# Altium integrated library Resistors.IntLib: 4954 symbols (part 15 of 32)
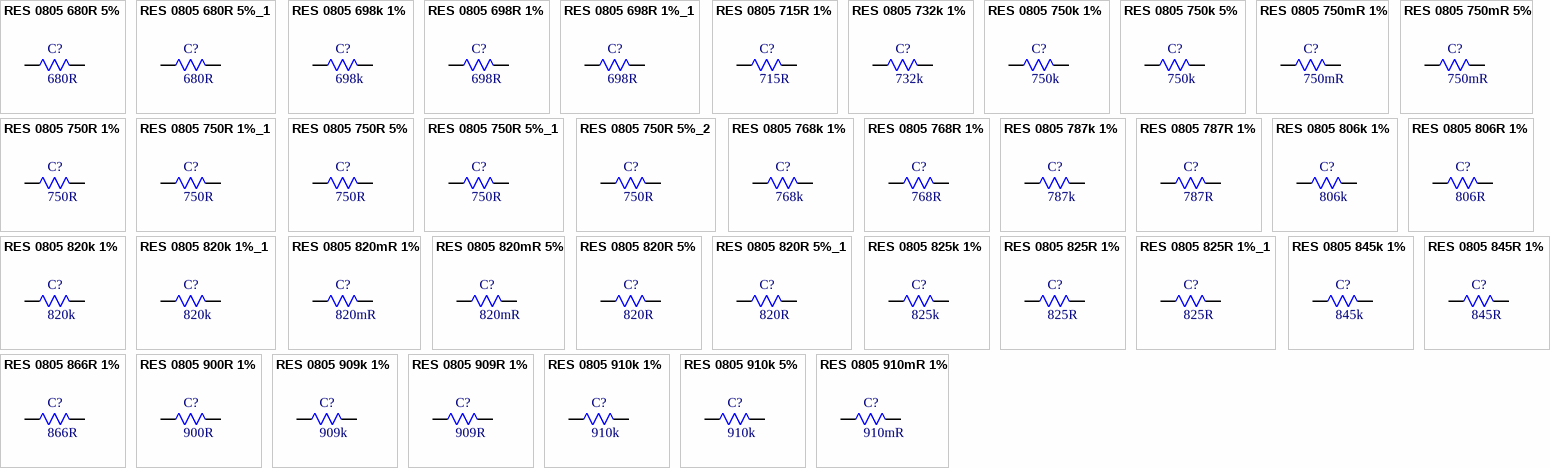
[diagram p137: symbols RES 0805 680R 5% to RES 0805 910mR 1%]

## RES 0805 680R 5%_1
designator C?, comment 680R
680R 125mW 150V Thick Film Resistor 100ppm/â„ƒ 5% 0805 Chip Resistor - Surface Mount RoHS; Manufacturer: FOJAN; Manufacturer Part Number: FRQ0805J681 TS; Supplier: LCSC; Supplier Part Number: C18222247; Resistance: 680R; Tolerance: 5%; Voltage Rating: 150V; Power: 125mW
footprint RES SMD 0805
pins: 1, 2

## RES 0805 698k 1%
designator C?, comment 698k
125mW 698kR 150V Thick Film Resistor 1% 0805 Chip Resistor - Surface Mount RoHS; Manufacturer: FOJAN; Manufacturer Part Number: FRC0805F6983TS; Supplier: LCSC; Supplier Part Number: C51048256; Resistance: 698k; Tolerance: 1%; Voltage Rating: 150V; Power: 125mW
footprint RES SMD 0805
pins: 1, 2

## RES 0805 698R 1%
designator C?, comment 698R
698R 1% 125mW 0805 Thick Film Resistor; Manufacturer: FOJAN; Manufacturer Part Number: FRC0805F6980TS; Voltage Rating: 150V; Supplier: LCSC; Supplier Part Number: C3000737; Resistance: 698R; Tolerance: 1%; Power: 125mW
footprint RES SMD 0805
pins: 1, 2

## RES 0805 698R 1%_1
designator C?, comment 698R
698R 1% 125mW 0805 Thick Film Resistor AEC-Q200; Manufacturer: FOJAN; Manufacturer Part Number: FRQ0805F6980TS; Voltage Rating: 150V; Supplier: LCSC; Supplier Part Number: C5713451; Resistance: 698R; Tolerance: 1%; Power: 125mW
footprint RES SMD 0805
pins: 1, 2

## RES 0805 715R 1%
designator C?, comment 715R
125mW 715R 150V Thick Film Resistor 1% 100ppm/â„ƒ 0805 Chip Resistor - Surface Mount RoHS; Manufacturer: FOJAN; Manufacturer Part Number: FRC0805F7150TS; Supplier: LCSC; Supplier Part Number: C7467423; Resistance: 715R; Tolerance: 1%; Voltage Rating: 150V; Power: 125mW
footprint RES SMD 0805
pins: 1, 2

## RES 0805 732k 1%
designator C?, comment 732k
732kR 1% 125mW 0805 Thick Film Resistor; Manufacturer: FOJAN; Manufacturer Part Number: FRC0805F7323TS; Voltage Rating: 150V; Supplier: LCSC; Supplier Part Number: C42372168; Resistance: 732k; Tolerance: 1%; Power: 125mW
footprint RES SMD 0805
pins: 1, 2

## RES 0805 750k 1%
designator C?, comment 750k
125mW 750kR Thick Film Resistor 1% 200ppm/â„ƒ 0805 Chip Resistor - Surface Mount RoHS; Manufacturer: FOJAN; Manufacturer Part Number: FRV0805F7503TS; Supplier: LCSC; Supplier Part Number: C22375105; Resistance: 750k; Tolerance: 1%; Power: 125mW
footprint RES SMD 0805
pins: 1, 2

## RES 0805 750k 5%
designator C?, comment 750k
750kR 5% 125mW 0805 Thick Film Resistor; Manufacturer: FOJAN; Manufacturer Part Number: FRC0805J754TS; Voltage Rating: 150V; Supplier: LCSC; Supplier Part Number: C2930311; Resistance: 750k; Tolerance: 5%; Power: 125mW
footprint RES SMD 0805
pins: 1, 2

## RES 0805 750mR 1%
designator C?, comment 750mR
750mR 1% 125mW 0805 Thick Film Resistor; Manufacturer: FOJAN; Manufacturer Part Number: FRL0805FR750TS; Voltage Rating: 300V; Supplier: LCSC; Supplier Part Number: C2930223; Resistance: 750mR; Tolerance: 1%; Power: 125mW
footprint RES SMD 0805
pins: 1, 2

## RES 0805 750mR 5%
designator C?, comment 750mR
750mR 5% 125mW 0805 Thick Film Resistor; Manufacturer: FOJAN; Manufacturer Part Number: FRL0805JR750TS; Voltage Rating: 300V; Supplier: LCSC; Supplier Part Number: C2934284; Resistance: 750mR; Tolerance: 5%; Power: 125mW
footprint RES SMD 0805
pins: 1, 2

## RES 0805 750R 1%
designator C?, comment 750R
750R 1% 125mW 0805 Thick Film Resistor; Manufacturer: FOJAN; Manufacturer Part Number: FRC0805F7500TS; Voltage Rating: 150V; Supplier: LCSC; Supplier Part Number: C2907285; Resistance: 750R; Tolerance: 1%; Power: 125mW
footprint RES SMD 0805
pins: 1, 2

## RES 0805 750R 1%_1
designator C?, comment 750R
125mW 750R Thick Film Resistor 1% 100ppm/â„ƒ 0805 Chip Resistor - Surface Mount RoHS; Manufacturer: FOJAN; Manufacturer Part Number: FRQ0805F7500TS; Supplier: LCSC; Supplier Part Number: C7468560; Resistance: 750R; Tolerance: 1%; Power: 125mW
footprint RES SMD 0805
pins: 1, 2

## RES 0805 750R 5%
designator C?, comment 750R
125mW 750R 150V Thick Film Resistor 100ppm/â„ƒ 5% 0805 Chip Resistor - Surface Mount RoHS; Manufacturer: FOJAN; Manufacturer Part Number: FRD0805J751RS; Supplier: LCSC; Supplier Part Number: C19268620; Resistance: 750R; Tolerance: 5%; Voltage Rating: 150V; Power: 125mW
footprint RES SMD 0805
pins: 1, 2

## RES 0805 750R 5%_1
designator C?, comment 750R
750R 5% 125mW 0805 Thick Film Resistor; Manufacturer: FOJAN; Manufacturer Part Number: FRD0805J751TS; Voltage Rating: 150V; Supplier: LCSC; Supplier Part Number: C2930312; Resistance: 750R; Tolerance: 5%; Power: 125mW
footprint RES SMD 0805
pins: 1, 2

## RES 0805 750R 5%_2
designator C?, comment 750R
750R 5% 125mW 0805 Thick Film Resistor; Manufacturer: FOJAN; Manufacturer Part Number: FRC0805J751 TS; Voltage Rating: 150V; Supplier: LCSC; Supplier Part Number: C2933567; Resistance: 750R; Tolerance: 5%; Power: 125mW
footprint RES SMD 0805
pins: 1, 2

## RES 0805 768k 1%
designator C?, comment 768k
125mW 768kR 150V Thick Film Resistor 1% 100ppm/â„ƒ 0805 Chip Resistor - Surface Mount RoHS; Manufacturer: FOJAN; Manufacturer Part Number: FRC0805F7683TS; Supplier: LCSC; Supplier Part Number: C7467337; Resistance: 768k; Tolerance: 1%; Voltage Rating: 150V; Power: 125mW
footprint RES SMD 0805
pins: 1, 2

## RES 0805 768R 1%
designator C?, comment 768R
768R 1% 125mW 0805 Thick Film Resistor; Manufacturer: FOJAN; Manufacturer Part Number: FRC0805F7680TS; Voltage Rating: 150V; Supplier: LCSC; Supplier Part Number: C5713315; Resistance: 768R; Tolerance: 1%; Power: 125mW
footprint RES SMD 0805
pins: 1, 2

## RES 0805 787k 1%
designator C?, comment 787k
787kR 1% 125mW 0805 Thick Film Resistor; Manufacturer: FOJAN; Manufacturer Part Number: FRC0805F7873TS; Voltage Rating: 150V; Supplier: LCSC; Supplier Part Number: C2933500; Resistance: 787k; Tolerance: 1%; Power: 125mW
footprint RES SMD 0805
pins: 1, 2

## RES 0805 787R 1%
designator C?, comment 787R
787R 1% 125mW 0805 Thick Film Resistor; Manufacturer: FOJAN; Manufacturer Part Number: FRC0805F7870TS; Voltage Rating: 150V; Supplier: LCSC; Supplier Part Number: C5713316; Resistance: 787R; Tolerance: 1%; Power: 125mW
footprint RES SMD 0805
pins: 1, 2

## RES 0805 806k 1%
designator C?, comment 806k
806kR 1% 125mW 0805 Thick Film Resistor; Manufacturer: FOJAN; Manufacturer Part Number: FRC0805F8063TS; Voltage Rating: 150V; Supplier: LCSC; Supplier Part Number: C2933502; Resistance: 806k; Tolerance: 1%; Power: 125mW
footprint RES SMD 0805
pins: 1, 2

## RES 0805 806R 1%
designator C?, comment 806R
806R 1% 125mW 0805 Thick Film Resistor; Manufacturer: FOJAN; Manufacturer Part Number: FRC0805F8060TS; Voltage Rating: 150V; Supplier: LCSC; Supplier Part Number: C2999620; Resistance: 806R; Tolerance: 1%; Power: 125mW
footprint RES SMD 0805
pins: 1, 2

## RES 0805 820k 1%
designator C?, comment 820k
820kR 1% 125mW 0805 Thick Film Resistor; Manufacturer: FOJAN; Manufacturer Part Number: FRC0805F8203TS; Voltage Rating: 150V; Supplier: LCSC; Supplier Part Number: C2933504; Resistance: 820k; Tolerance: 1%; Power: 125mW
footprint RES SMD 0805
pins: 1, 2

## RES 0805 820k 1%_1
designator C?, comment 820k
125mW 820kR 400V Thick Film Resistor 200ppm/â„ƒ 1% 0805 Chip Resistor - Surface Mount RoHS; Manufacturer: FOJAN; Manufacturer Part Number: FRV0805F8203TS; Supplier: LCSC; Supplier Part Number: C49196876; Resistance: 820k; Tolerance: 1%; Voltage Rating: 400V; Power: 125mW
footprint RES SMD 0805
pins: 1, 2

## RES 0805 820mR 1%
designator C?, comment 820mR
820mR 1% 125mW 0805 Thick Film Resistor; Manufacturer: FOJAN; Manufacturer Part Number: FRL0805FR820TS; Voltage Rating: 300V; Supplier: LCSC; Supplier Part Number: C2934270; Resistance: 820mR; Tolerance: 1%; Power: 125mW
footprint RES SMD 0805
pins: 1, 2

## RES 0805 820mR 5%
designator C?, comment 820mR
820mR 5% 125mW 0805 Thick Film Resistor; Manufacturer: FOJAN; Manufacturer Part Number: FRL0805JR820TS; Voltage Rating: 300V; Supplier: LCSC; Supplier Part Number: C2934285; Resistance: 820mR; Tolerance: 5%; Power: 125mW
footprint RES SMD 0805
pins: 1, 2

## RES 0805 820R 5%
designator C?, comment 820R
820R 5% 125mW 0805 Thick Film Resistor; Manufacturer: FOJAN; Manufacturer Part Number: FRD0805J821 TS; Voltage Rating: 150V; Supplier: LCSC; Supplier Part Number: C2934187; Resistance: 820R; Tolerance: 5%; Power: 125mW
footprint RES SMD 0805
pins: 1, 2

## RES 0805 820R 5%_1
designator C?, comment 820R
820R 5% 125mW 0805 Thick Film Resistor; Manufacturer: FOJAN; Manufacturer Part Number: FRC0805J821 TS; Voltage Rating: 150V; Supplier: LCSC; Supplier Part Number: C2933571; Resistance: 820R; Tolerance: 5%; Power: 125mW
footprint RES SMD 0805
pins: 1, 2

## RES 0805 825k 1%
designator C?, comment 825k
125mW 825kR 150V Thick Film Resistor 100ppm/â„ƒ 1% 0805 Chip Resistor - Surface Mount RoHS; Manufacturer: FOJAN; Manufacturer Part Number: FRC0805F8253TS; Supplier: LCSC; Supplier Part Number: C49010125; Resistance: 825k; Tolerance: 1%; Voltage Rating: 150V; Power: 125mW
footprint RES SMD 0805
pins: 1, 2

## RES 0805 825R 1%
designator C?, comment 825R
125mW 825R Thick Film Resistor 100ppm/â„ƒ 1% 0805 Chip Resistor - Surface Mount RoHS; Manufacturer: FOJAN; Manufacturer Part Number: FRQ0805F8250TS; Supplier: LCSC; Supplier Part Number: C22375120; Resistance: 825R; Tolerance: 1%; Power: 125mW
footprint RES SMD 0805
pins: 1, 2

## RES 0805 825R 1%_1
designator C?, comment 825R
825R 1% 125mW 0805 Thick Film Resistor; Manufacturer: FOJAN; Manufacturer Part Number: FRC0805F8250TS; Voltage Rating: 150V; Supplier: LCSC; Supplier Part Number: C5121546; Resistance: 825R; Tolerance: 1%; Power: 125mW
footprint RES SMD 0805
pins: 1, 2

## RES 0805 845k 1%
designator C?, comment 845k
845kR 1% 125mW 0805 Thick Film Resistor; Manufacturer: FOJAN; Manufacturer Part Number: FRC0805F8453TS; Voltage Rating: 150V; Supplier: LCSC; Supplier Part Number: C5159724; Resistance: 845k; Tolerance: 1%; Power: 125mW
footprint RES SMD 0805
pins: 1, 2

## RES 0805 845R 1%
designator C?, comment 845R
845R 1% 125mW 0805 Thick Film Resistor; Manufacturer: FOJAN; Manufacturer Part Number: FRC0805F8450TS; Voltage Rating: 150V; Supplier: LCSC; Supplier Part Number: C3013229; Resistance: 845R; Tolerance: 1%; Power: 125mW
footprint RES SMD 0805
pins: 1, 2

## RES 0805 866R 1%
designator C?, comment 866R
866R 125mW 150V Thick Film Resistor 100ppm/â„ƒ 1% 0805 Chip Resistor - Surface Mount RoHS; Manufacturer: FOJAN; Manufacturer Part Number: FRC0805F8660TS; Supplier: LCSC; Supplier Part Number: C22375134; Resistance: 866R; Tolerance: 1%; Voltage Rating: 150V; Power: 125mW
footprint RES SMD 0805
pins: 1, 2

## RES 0805 900R 1%
designator C?, comment 900R
125mW 900R 150V Thick Film Resistor 100ppm/â„ƒ 1% 0805 Chip Resistor - Surface Mount RoHS; Manufacturer: FOJAN; Manufacturer Part Number: FRC0805F9000TS; Supplier: LCSC; Supplier Part Number: C49010113; Resistance: 900R; Tolerance: 1%; Voltage Rating: 150V; Power: 125mW
footprint RES SMD 0805
pins: 1, 2

## RES 0805 909k 1%
designator C?, comment 909k
125mW 909kR 150V Thick Film Resistor 1% 100ppm/â„ƒ 0805 Chip Resistor - Surface Mount RoHS; Manufacturer: FOJAN; Manufacturer Part Number: FRC0805F9093TS; Supplier: LCSC; Supplier Part Number: C7467425; Resistance: 909k; Tolerance: 1%; Voltage Rating: 150V; Power: 125mW
footprint RES SMD 0805
pins: 1, 2

## RES 0805 909R 1%
designator C?, comment 909R
909R 1% 125mW 0805 Thick Film Resistor; Manufacturer: FOJAN; Manufacturer Part Number: FRC0805F9090TS; Voltage Rating: 150V; Supplier: LCSC; Supplier Part Number: C3013230; Resistance: 909R; Tolerance: 1%; Power: 125mW
footprint RES SMD 0805
pins: 1, 2

## RES 0805 910k 1%
designator C?, comment 910k
910kR 1% 125mW 0805 Thick Film Resistor; Manufacturer: FOJAN; Manufacturer Part Number: FRC0805F9103TS; Voltage Rating: 150V; Supplier: LCSC; Supplier Part Number: C2999461; Resistance: 910k; Tolerance: 1%; Power: 125mW
footprint RES SMD 0805
pins: 1, 2

## RES 0805 910k 5%
designator C?, comment 910k
910kR 5% 125mW 0805 Thick Film Resistor; Manufacturer: FOJAN; Manufacturer Part Number: FRC0805J914 TS; Voltage Rating: 150V; Supplier: LCSC; Supplier Part Number: C2933575; Resistance: 910k; Tolerance: 5%; Power: 125mW
footprint RES SMD 0805
pins: 1, 2

## RES 0805 910mR 1%
designator C?, comment 910mR
910mR 1% 125mW 0805 Thick Film Resistor; Manufacturer: FOJAN; Manufacturer Part Number: FRL0805FR910TS; Voltage Rating: 300V; Supplier: LCSC; Supplier Part Number: C3000599; Resistance: 910mR; Tolerance: 1%; Power: 125mW
footprint RES SMD 0805
pins: 1, 2

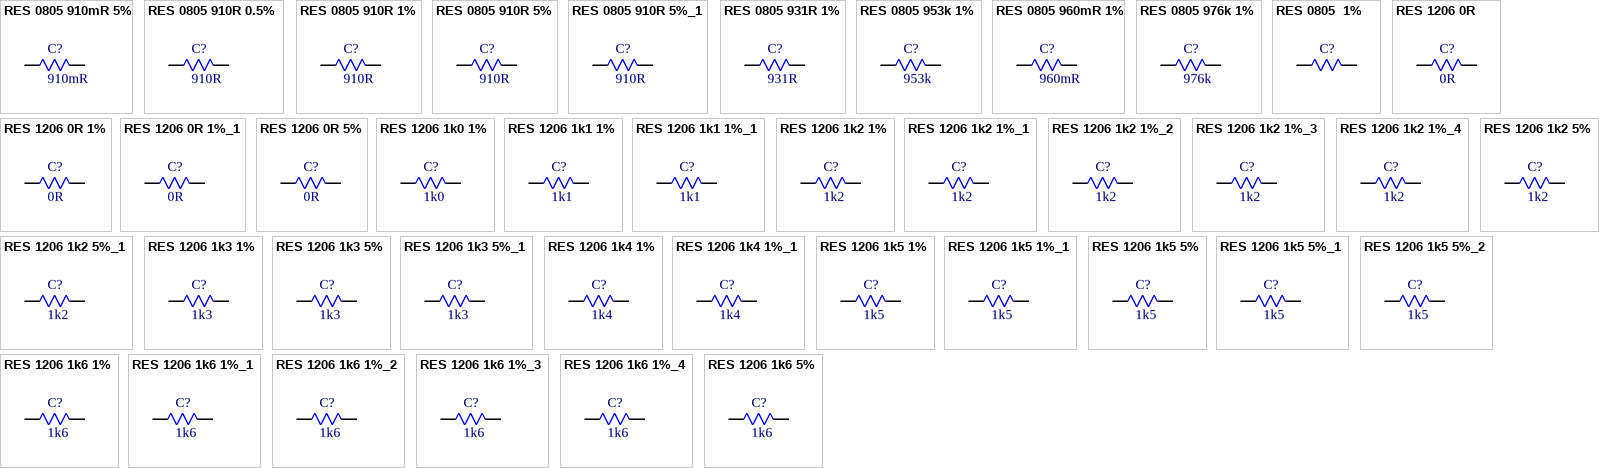
[diagram p57: symbols RES 0805 910mR 5% to RES 1206 1k6 5%]

## RES 0805 910mR 5%
designator C?, comment 910mR
910mR 5% 125mW 0805 Thick Film Resistor; Manufacturer: FOJAN; Manufacturer Part Number: FRL0805JR910TS; Voltage Rating: 300V; Supplier: LCSC; Supplier Part Number: C2934286; Resistance: 910mR; Tolerance: 5%; Power: 125mW
footprint RES SMD 0805
pins: 1, 2

## RES 0805 910R 0.5%
designator C?, comment 910R
910R 0.5% 125mW 0805 Thick Film Resistor; Manufacturer: FOJAN; Manufacturer Part Number: FRH0805D9100TS; Voltage Rating: 150V; Supplier: LCSC; Supplier Part Number: C5713388; Resistance: 910R; Tolerance: 0.5%; Power: 125mW
footprint RES SMD 0805
pins: 1, 2

## RES 0805 910R 1%
designator C?, comment 910R
910R 1% 125mW 0805 Thick Film Resistor; Manufacturer: FOJAN; Manufacturer Part Number: FRC0805F9100TS; Voltage Rating: 150V; Supplier: LCSC; Supplier Part Number: C2930211; Resistance: 910R; Tolerance: 1%; Power: 125mW
footprint RES SMD 0805
pins: 1, 2

## RES 0805 910R 5%
designator C?, comment 910R
910R 5% 125mW 0805 Thick Film Resistor; Manufacturer: FOJAN; Manufacturer Part Number: FRC0805J911TSD; Voltage Rating: 150V; Supplier: LCSC; Supplier Part Number: C2930320; Resistance: 910R; Tolerance: 5%; Power: 125mW
footprint RES SMD 0805
pins: 1, 2

## RES 0805 910R 5%_1
designator C?, comment 910R
910R 5% 125mW 0805 Thick Film Resistor; Manufacturer: FOJAN; Manufacturer Part Number: FRC0805J911 TS; Voltage Rating: 150V; Supplier: LCSC; Supplier Part Number: C2933574; Resistance: 910R; Tolerance: 5%; Power: 125mW
footprint RES SMD 0805
pins: 1, 2

## RES 0805 931R 1%
designator C?, comment 931R
931R 1% 125mW 0805 Thick Film Resistor; Manufacturer: FOJAN; Manufacturer Part Number: FRC0805F9310TS; Voltage Rating: 150V; Supplier: LCSC; Supplier Part Number: C3000585; Resistance: 931R; Tolerance: 1%; Power: 125mW
footprint RES SMD 0805
pins: 1, 2

## RES 0805 953k 1%
designator C?, comment 953k
953kR 1% 125mW 0805 Thick Film Resistor; Manufacturer: FOJAN; Manufacturer Part Number: FRC0805F9533TS; Voltage Rating: 150V; Supplier: LCSC; Supplier Part Number: C3013231; Resistance: 953k; Tolerance: 1%; Power: 125mW
footprint RES SMD 0805
pins: 1, 2

## RES 0805 960mR 1%
designator C?, comment 960mR
960mR 1% 125mW 0805 Thick Film Resistor; Manufacturer: FOJAN; Manufacturer Part Number: FRL0805FR960TS; Voltage Rating: 300V; Supplier: LCSC; Supplier Part Number: C2934271; Resistance: 960mR; Tolerance: 1%; Power: 125mW
footprint RES SMD 0805
pins: 1, 2

## RES 0805 976k 1%
designator C?, comment 976k
125mW 976kR 150V Thick Film Resistor 100ppm/â„ƒ 1% 0805 Chip Resistor - Surface Mount RoHS; Manufacturer: FOJAN; Manufacturer Part Number: FRC0805F9763TS; Supplier: LCSC; Supplier Part Number: C48533716; Resistance: 976k; Tolerance: 1%; Voltage Rating: 150V; Power: 125mW
footprint RES SMD 0805
pins: 1, 2

## RES 0805  1%
designator C?
125mW 150V Thick Film Resistor 1% 0805 Chip Resistor - Surface Mount RoHS; Manufacturer: FOJAN; Manufacturer Part Number: FRR0805F0000TS; Supplier: LCSC; Supplier Part Number: C51048219; Tolerance: 1%; Voltage Rating: 150V; Power: 125mW
footprint RES SMD 0805
pins: 1, 2

## RES 1206 0R
designator C?, comment 0R
0R 250mW 200V Thick Film Resistor 1206 Chip Resistor - Surface Mount RoHS; Manufacturer: FOJAN; Manufacturer Part Number: FRR1206P000 TS; Supplier: LCSC; Supplier Part Number: C49196841; Resistance: 0R; Voltage Rating: 200V; Power: 250mW
footprint RES SMD 1206
pins: 1, 2

## RES 1206 0R 1%
designator C?, comment 0R
250mW 0R 200V Thick Film Resistor 1% 1206 Chip Resistor - Surface Mount RoHS; Manufacturer: FOJAN; Manufacturer Part Number: FRC1206F0000TS; Supplier: LCSC; Supplier Part Number: C2907363; Resistance: 0R; Tolerance: 1%; Voltage Rating: 200V; Power: 250mW
footprint RES SMD 1206
pins: 1, 2

## RES 1206 0R 1%_1
designator C?, comment 0R
0R 250mW Thick Film Resistor 1% 1206 Chip Resistor - Surface Mount RoHS; Manufacturer: FOJAN; Manufacturer Part Number: FRQ1206F0000TS; Supplier: LCSC; Supplier Part Number: C7468496; Resistance: 0R; Tolerance: 1%; Power: 250mW
footprint RES SMD 1206
pins: 1, 2

## RES 1206 0R 5%
designator C?, comment 0R
0R 250mW Thick Film Resistor 5% 1206 Chip Resistor - Surface Mount RoHS; Manufacturer: FOJAN; Manufacturer Part Number: FRQ1206P000 TS; Supplier: LCSC; Supplier Part Number: C7468427; Resistance: 0R; Tolerance: 5%; Power: 250mW
footprint RES SMD 1206
pins: 1, 2

## RES 1206 1k0 1%
designator C?, comment 1k0
1.05kR 250mW 200V Thick Film Resistor 1% 100ppm/â„ƒ 1206 Chip Resistor - Surface Mount RoHS; Manufacturer: FOJAN; Manufacturer Part Number: FRC1206F1051TS; Supplier: LCSC; Supplier Part Number: C7467470; Resistance: 1k0; Tolerance: 1%; Voltage Rating: 200V; Power: 250mW
footprint RES SMD 1206
pins: 1, 2

## RES 1206 1k1 1%
designator C?, comment 1k1
1.1kR 1% 250mW 1206 Thick Film Resistor; Manufacturer: FOJAN; Manufacturer Part Number: FRC1206F1101TS; Voltage Rating: 200V; Supplier: LCSC; Supplier Part Number: C2933580; Resistance: 1k1; Tolerance: 1%; Power: 250mW
footprint RES SMD 1206
pins: 1, 2

## RES 1206 1k1 1%_1
designator C?, comment 1k1
1.13kR 1% 250mW 1206 Thick Film Resistor; Manufacturer: FOJAN; Manufacturer Part Number: FRC1206F1131TS; Voltage Rating: 200V; Supplier: LCSC; Supplier Part Number: C5204018; Resistance: 1k1; Tolerance: 1%; Power: 250mW
footprint RES SMD 1206
pins: 1, 2

## RES 1206 1k2 1%
designator C?, comment 1k2
1.2kR 1% 250mW 1206 Thick Film Resistor; Manufacturer: FOJAN; Manufacturer Part Number: FRC1206F1201TS; Voltage Rating: 200V; Supplier: LCSC; Supplier Part Number: C2933585; Resistance: 1k2; Tolerance: 1%; Power: 250mW
footprint RES SMD 1206
pins: 1, 2

## RES 1206 1k2 1%_1
designator C?, comment 1k2
1.24kR 1% 250mW 1206 Thick Film Resistor; Manufacturer: FOJAN; Manufacturer Part Number: FRC1206F1241TS; Voltage Rating: 200V; Supplier: LCSC; Supplier Part Number: C2999505; Resistance: 1k2; Tolerance: 1%; Power: 250mW
footprint RES SMD 1206
pins: 1, 2

## RES 1206 1k2 1%_2
designator C?, comment 1k2
250mW 1.2kR 200V Thick Film Resistor 100ppm/â„ƒ 1% 1206 Chip Resistor - Surface Mount RoHS; Manufacturer: FOJAN; Manufacturer Part Number: FRQ1206F1201TS; Supplier: LCSC; Supplier Part Number: C18222272; Resistance: 1k2; Tolerance: 1%; Voltage Rating: 200V; Power: 250mW
footprint RES SMD 1206
pins: 1, 2

## RES 1206 1k2 1%_3
designator C?, comment 1k2
500mW 1.2kR Thick Film Resistor 200ppm/â„ƒ 1% 1206 Chip Resistor - Surface Mount RoHS; Manufacturer: FOJAN; Manufacturer Part Number: FRP1206F1201TS; Supplier: LCSC; Supplier Part Number: C7468365; Resistance: 1k2; Tolerance: 1%; Power: 500mW
footprint RES SMD 1206
pins: 1, 2

## RES 1206 1k2 1%_4
designator C?, comment 1k2
1.27kR 1% 250mW 1206 Thick Film Resistor; Manufacturer: FOJAN; Manufacturer Part Number: FRC1206F1271TS; Voltage Rating: 200V; Supplier: LCSC; Supplier Part Number: C2933589; Resistance: 1k2; Tolerance: 1%; Power: 250mW
footprint RES SMD 1206
pins: 1, 2

## RES 1206 1k2 5%
designator C?, comment 1k2
1.2kR 5% 250mW 1206 Thick Film Resistor; Manufacturer: FOJAN; Manufacturer Part Number: FRC1206J122 TS; Voltage Rating: 200V; Supplier: LCSC; Supplier Part Number: C2907408; Resistance: 1k2; Tolerance: 5%; Power: 250mW
footprint RES SMD 1206
pins: 1, 2

## RES 1206 1k2 5%_1
designator C?, comment 1k2
250mW 1.2kR 200V Thick Film Resistor 100ppm/â„ƒ 5% 1206 Chip Resistor - Surface Mount RoHS; Manufacturer: FOJAN; Manufacturer Part Number: FRQ1206J122 TS; Supplier: LCSC; Supplier Part Number: C18222285; Resistance: 1k2; Tolerance: 5%; Voltage Rating: 200V; Power: 250mW
footprint RES SMD 1206
pins: 1, 2

## RES 1206 1k3 1%
designator C?, comment 1k3
1.3kR 1% 250mW 1206 Thick Film Resistor; Manufacturer: FOJAN; Manufacturer Part Number: FRC1206F1301TS; Voltage Rating: 200V; Supplier: LCSC; Supplier Part Number: C2933592; Resistance: 1k3; Tolerance: 1%; Power: 250mW
footprint RES SMD 1206
pins: 1, 2

## RES 1206 1k3 5%
designator C?, comment 1k3
1.3kR 5% 250mW 1206 Thick Film Resistor; Manufacturer: FOJAN; Manufacturer Part Number: FRC1206J132 TS; Voltage Rating: 200V; Supplier: LCSC; Supplier Part Number: C2907411; Resistance: 1k3; Tolerance: 5%; Power: 250mW
footprint RES SMD 1206
pins: 1, 2

## RES 1206 1k3 5%_1
designator C?, comment 1k3
250mW 1.3kR 200V Thick Film Resistor 5% 100ppm/â„ƒ 1206 Chip Resistor - Surface Mount RoHS; Manufacturer: FOJAN; Manufacturer Part Number: FRQ1206J132 TS; Supplier: LCSC; Supplier Part Number: C7468440; Resistance: 1k3; Tolerance: 5%; Voltage Rating: 200V; Power: 250mW
footprint RES SMD 1206
pins: 1, 2

## RES 1206 1k4 1%
designator C?, comment 1k4
1.4kR 1% 250mW 1206 Thick Film Resistor; Manufacturer: FOJAN; Manufacturer Part Number: FRC1206F1401TS; Voltage Rating: 200V; Supplier: LCSC; Supplier Part Number: C5713320; Resistance: 1k4; Tolerance: 1%; Power: 250mW
footprint RES SMD 1206
pins: 1, 2

## RES 1206 1k4 1%_1
designator C?, comment 1k4
1.47kR 1% 250mW 1206 Thick Film Resistor; Manufacturer: FOJAN; Manufacturer Part Number: FRC1206F1471TS; Voltage Rating: 200V; Supplier: LCSC; Supplier Part Number: C2930401; Resistance: 1k4; Tolerance: 1%; Power: 250mW
footprint RES SMD 1206
pins: 1, 2

## RES 1206 1k5 1%
designator C?, comment 1k5
250mW 1.5kR 200V Thick Film Resistor 100ppm/â„ƒ 1% 1206 Chip Resistor - Surface Mount RoHS; Manufacturer: FOJAN; Manufacturer Part Number: FRR1206F1501TS; Supplier: LCSC; Supplier Part Number: C49196834; Resistance: 1k5; Tolerance: 1%; Voltage Rating: 200V; Power: 250mW
footprint RES SMD 1206
pins: 1, 2

## RES 1206 1k5 1%_1
designator C?, comment 1k5
1.5kR 1% 250mW 1206 Thick Film Resistor; Manufacturer: FOJAN; Manufacturer Part Number: FRC1206F1501TS; Voltage Rating: 200V; Supplier: LCSC; Supplier Part Number: C2930402; Resistance: 1k5; Tolerance: 1%; Power: 250mW
footprint RES SMD 1206
pins: 1, 2

## RES 1206 1k5 5%
designator C?, comment 1k5
1.5kR 5% 250mW 1206 Thick Film Resistor; Manufacturer: FOJAN; Manufacturer Part Number: FRC1206J152 TS; Voltage Rating: 200V; Supplier: LCSC; Supplier Part Number: C2907413; Resistance: 1k5; Tolerance: 5%; Power: 250mW
footprint RES SMD 1206
pins: 1, 2

## RES 1206 1k5 5%_1
designator C?, comment 1k5
250mW 1.5kR 200V Thick Film Resistor 5% 100ppm/â„ƒ 1206 Chip Resistor - Surface Mount RoHS; Manufacturer: FOJAN; Manufacturer Part Number: FRQ1206J152 TS; Supplier: LCSC; Supplier Part Number: C7468446; Resistance: 1k5; Tolerance: 5%; Voltage Rating: 200V; Power: 250mW
footprint RES SMD 1206
pins: 1, 2

## RES 1206 1k5 5%_2
designator C?, comment 1k5
250mW 1.5kR 500V Thick Film Resistor 5% 200ppm/â„ƒ 1206 Chip Resistor - Surface Mount RoHS; Manufacturer: FOJAN; Manufacturer Part Number: FRV1206J152 TS; Supplier: LCSC; Supplier Part Number: C48533763; Resistance: 1k5; Tolerance: 5%; Voltage Rating: 500V; Power: 250mW
footprint RES SMD 1206
pins: 1, 2

## RES 1206 1k6 1%
designator C?, comment 1k6
1.6kR 1% 250mW 1206 Thick Film Resistor; Manufacturer: FOJAN; Manufacturer Part Number: FRQ1206F1601TS; Voltage Rating: 200V; Supplier: LCSC; Supplier Part Number: C42372217; Resistance: 1k6; Tolerance: 1%; Power: 250mW
footprint RES SMD 1206
pins: 1, 2

## RES 1206 1k6 1%_1
designator C?, comment 1k6
1.69kR 1% 250mW 1206 Thick Film Resistor; Manufacturer: FOJAN; Manufacturer Part Number: FRC1206F1691TS; Voltage Rating: 200V; Supplier: LCSC; Supplier Part Number: C2933608; Resistance: 1k6; Tolerance: 1%; Power: 250mW
footprint RES SMD 1206
pins: 1, 2

## RES 1206 1k6 1%_2
designator C?, comment 1k6
1.6kR 1% 250mW 1206 Thick Film Resistor; Manufacturer: FOJAN; Manufacturer Part Number: FRC1206F1601TS; Voltage Rating: 200V; Supplier: LCSC; Supplier Part Number: C2933603; Resistance: 1k6; Tolerance: 1%; Power: 250mW
footprint RES SMD 1206
pins: 1, 2

## RES 1206 1k6 1%_3
designator C?, comment 1k6
1.65kR 1% 250mW 1206 Thick Film Resistor; Manufacturer: FOJAN; Manufacturer Part Number: FRC1206F1651TS; Voltage Rating: 200V; Supplier: LCSC; Supplier Part Number: C5713321; Resistance: 1k6; Tolerance: 1%; Power: 250mW
footprint RES SMD 1206
pins: 1, 2

## RES 1206 1k6 1%_4
designator C?, comment 1k6
1.62kR 1% 250mW 1206 Thick Film Resistor; Manufacturer: FOJAN; Manufacturer Part Number: FRC1206F1621TS; Voltage Rating: 200V; Supplier: LCSC; Supplier Part Number: C5126093; Resistance: 1k6; Tolerance: 1%; Power: 250mW
footprint RES SMD 1206
pins: 1, 2

## RES 1206 1k6 5%
designator C?, comment 1k6
250mW 1.6kR 200V Thick Film Resistor 5% 100ppm/â„ƒ 1206 Chip Resistor - Surface Mount RoHS; Manufacturer: FOJAN; Manufacturer Part Number: FRQ1206J162 TS; Supplier: LCSC; Supplier Part Number: C7468667; Resistance: 1k6; Tolerance: 5%; Voltage Rating: 200V; Power: 250mW
footprint RES SMD 1206
pins: 1, 2

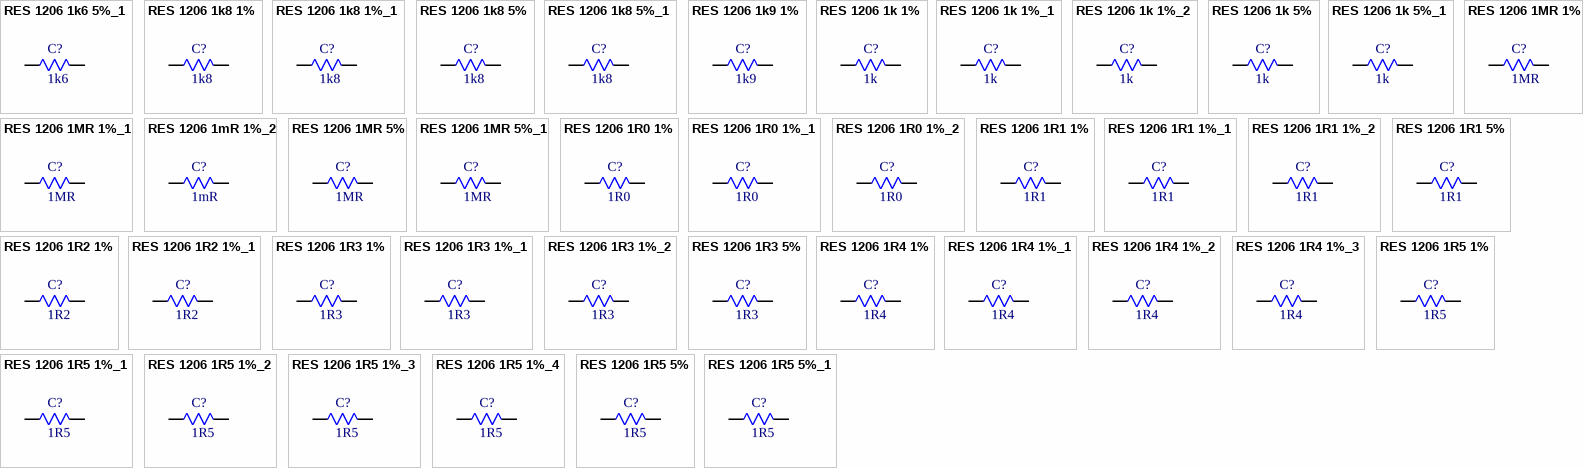
[diagram p58: symbols RES 1206 1k6 5%_1 to RES 1206 1R5 5%_1]

## RES 1206 1k6 5%_1
designator C?, comment 1k6
1.6kR 5% 250mW 1206 Thick Film Resistor; Manufacturer: FOJAN; Manufacturer Part Number: FRC1206J162 TS; Voltage Rating: 200V; Supplier: LCSC; Supplier Part Number: C2907416; Resistance: 1k6; Tolerance: 5%; Power: 250mW
footprint RES SMD 1206
pins: 1, 2

## RES 1206 1k8 1%
designator C?, comment 1k8
1.8kR 1% 250mW 1206 Thick Film Resistor; Manufacturer: FOJAN; Manufacturer Part Number: FRC1206F1801TS; Voltage Rating: 200V; Supplier: LCSC; Supplier Part Number: C2933613; Resistance: 1k8; Tolerance: 1%; Power: 250mW
footprint RES SMD 1206
pins: 1, 2

## RES 1206 1k8 1%_1
designator C?, comment 1k8
1.87kR 1% 250mW 1206 Thick Film Resistor; Manufacturer: FOJAN; Manufacturer Part Number: FRC1206F1871TS; Voltage Rating: 200V; Supplier: LCSC; Supplier Part Number: C2974045; Resistance: 1k8; Tolerance: 1%; Power: 250mW
footprint RES SMD 1206
pins: 1, 2

## RES 1206 1k8 5%
designator C?, comment 1k8
1.8kR 5% 250mW 1206 Thick Film Resistor; Manufacturer: FOJAN; Manufacturer Part Number: FRC1206J182 TS; Voltage Rating: 200V; Supplier: LCSC; Supplier Part Number: C2907418; Resistance: 1k8; Tolerance: 5%; Power: 250mW
footprint RES SMD 1206
pins: 1, 2

## RES 1206 1k8 5%_1
designator C?, comment 1k8
250mW 1.8kR 200V Thick Film Resistor 5% 100ppm/â„ƒ 1206 Chip Resistor - Surface Mount RoHS; Manufacturer: FOJAN; Manufacturer Part Number: FRQ1206J182 TS; Supplier: LCSC; Supplier Part Number: C7468459; Resistance: 1k8; Tolerance: 5%; Voltage Rating: 200V; Power: 250mW
footprint RES SMD 1206
pins: 1, 2

## RES 1206 1k9 1%
designator C?, comment 1k9
1.91kR 1% 250mW 1206 Thick Film Resistor; Manufacturer: FOJAN; Manufacturer Part Number: FRC1206F1911TS; Voltage Rating: 200V; Supplier: LCSC; Supplier Part Number: C3013245; Resistance: 1k9; Tolerance: 1%; Power: 250mW
footprint RES SMD 1206
pins: 1, 2

## RES 1206 1k 1%
designator C?, comment 1k
1kR 1% 250mW 1206 Thick Film Resistor; Manufacturer: FOJAN; Manufacturer Part Number: FRC1206F1001TS; Voltage Rating: 200V; Supplier: LCSC; Supplier Part Number: C2907372; Resistance: 1k; Tolerance: 1%; Power: 250mW
footprint RES SMD 1206
pins: 1, 2

## RES 1206 1k 1%_1
designator C?, comment 1k
1kR 1% 250mW 1206 Thick Film Resistor AEC-Q200; Manufacturer: FOJAN; Manufacturer Part Number: FRQ1206F1001TS; Voltage Rating: 200V; Supplier: LCSC; Supplier Part Number: C5713455; Resistance: 1k; Tolerance: 1%; Power: 250mW
footprint RES SMD 1206
pins: 1, 2

## RES 1206 1k 1%_2
designator C?, comment 1k
1kR 250mW 200V Thick Film Resistor 1% 1206 Chip Resistor - Surface Mount RoHS; Manufacturer: FOJAN; Manufacturer Part Number: FRR1206F1001TS; Supplier: LCSC; Supplier Part Number: C51048126; Resistance: 1k; Tolerance: 1%; Voltage Rating: 200V; Power: 250mW
footprint RES SMD 1206
pins: 1, 2

## RES 1206 1k 5%
designator C?, comment 1k
1kR 5% 250mW 1206 Thick Film Resistor; Manufacturer: FOJAN; Manufacturer Part Number: FRC1206J102 TS; Voltage Rating: 200V; Supplier: LCSC; Supplier Part Number: C2907440; Resistance: 1k; Tolerance: 5%; Power: 250mW
footprint RES SMD 1206
pins: 1, 2

## RES 1206 1k 5%_1
designator C?, comment 1k
250mW 1kR 200V Thick Film Resistor 5% 100ppm/â„ƒ 1206 Chip Resistor - Surface Mount RoHS; Manufacturer: FOJAN; Manufacturer Part Number: FRQ1206J102 TS; Supplier: LCSC; Supplier Part Number: C7468397; Resistance: 1k; Tolerance: 5%; Voltage Rating: 200V; Power: 250mW
footprint RES SMD 1206
pins: 1, 2

## RES 1206 1MR 1%
designator C?, comment 1MR
1MR 1% 250mW 1206 Thick Film Resistor; Manufacturer: FOJAN; Manufacturer Part Number: FRC1206F1004TS; Voltage Rating: 200V; Supplier: LCSC; Supplier Part Number: C2907373; Resistance: 1MR; Tolerance: 1%; Power: 250mW
footprint RES SMD 1206
pins: 1, 2

## RES 1206 1MR 1%_1
designator C?, comment 1MR
250mW 1MR Thick Film Resistor 1% 100ppm/â„ƒ 1206 Chip Resistor - Surface Mount RoHS; Manufacturer: FOJAN; Manufacturer Part Number: FRQ1206F1004TS; Supplier: LCSC; Supplier Part Number: C7468598; Resistance: 1MR; Tolerance: 1%; Power: 250mW
footprint RES SMD 1206
pins: 1, 2

## RES 1206 1mR 1%_2
designator C?, comment 1mR
1mR 1W 50ppm/â„ƒ 1% 1206 Chip Resistor - Surface Mount RoHS; Manufacturer: FOJAN; Manufacturer Part Number: FRM121WFR001TML; Supplier: LCSC; Supplier Part Number: C48533618; Resistance: 1mR; Tolerance: 1%; Power: 1W
footprint RES SMD 1206
pins: 1, 2

## RES 1206 1MR 5%
designator C?, comment 1MR
1MR 5% 250mW 1206 Thick Film Resistor; Manufacturer: FOJAN; Manufacturer Part Number: FRC1206J105 TS; Voltage Rating: 200V; Supplier: LCSC; Supplier Part Number: C2907441; Resistance: 1MR; Tolerance: 5%; Power: 250mW
footprint RES SMD 1206
pins: 1, 2

## RES 1206 1MR 5%_1
designator C?, comment 1MR
1MR 5% 250mW 1206 Thick Film Resistor AEC-Q200; Manufacturer: FOJAN; Manufacturer Part Number: FRQ1206J105 TS; Voltage Rating: 200V; Supplier: LCSC; Supplier Part Number: C2934405; Resistance: 1MR; Tolerance: 5%; Power: 250mW
footprint RES SMD 1206
pins: 1, 2

## RES 1206 1R0 1%
designator C?, comment 1R0
1.05MR 1% 250mW 1206 Thick Film Resistor; Manufacturer: FOJAN; Manufacturer Part Number: FRC1206F1054TS; Voltage Rating: 200V; Supplier: LCSC; Supplier Part Number: C2999630; Resistance: 1R0; Tolerance: 1%; Power: 250mW
footprint RES SMD 1206
pins: 1, 2

## RES 1206 1R0 1%_1
designator C?, comment 1R0
1.07R 1% 250mW 1206 Thick Film Resistor; Manufacturer: FOJAN; Manufacturer Part Number: FRC1206F1R07TS; Voltage Rating: 200V; Supplier: LCSC; Supplier Part Number: C5126012; Resistance: 1R0; Tolerance: 1%; Power: 250mW
footprint RES SMD 1206
pins: 1, 2

## RES 1206 1R0 1%_2
designator C?, comment 1R0
1.05R 1% 250mW 1206 Thick Film Resistor; Manufacturer: FOJAN; Manufacturer Part Number: FRC1206F1R05TS; Voltage Rating: 200V; Supplier: LCSC; Supplier Part Number: C2960691; Resistance: 1R0; Tolerance: 1%; Power: 250mW
footprint RES SMD 1206
pins: 1, 2

## RES 1206 1R1 1%
designator C?, comment 1R1
1.13R 1% 250mW 1206 Thick Film Resistor; Manufacturer: FOJAN; Manufacturer Part Number: FRC1206F1R13TS; Voltage Rating: 200V; Supplier: LCSC; Supplier Part Number: C2933624; Resistance: 1R1; Tolerance: 1%; Power: 250mW
footprint RES SMD 1206
pins: 1, 2

## RES 1206 1R1 1%_1
designator C?, comment 1R1
1.1MR 1% 250mW 1206 Thick Film Resistor; Manufacturer: FOJAN; Manufacturer Part Number: FRC1206F1104TS; Voltage Rating: 200V; Supplier: LCSC; Supplier Part Number: C3013238; Resistance: 1R1; Tolerance: 1%; Power: 250mW
footprint RES SMD 1206
pins: 1, 2

## RES 1206 1R1 1%_2
designator C?, comment 1R1
1.15R 1% 250mW 1206 Thick Film Resistor; Manufacturer: FOJAN; Manufacturer Part Number: FRC1206F1R15TS; Voltage Rating: 200V; Supplier: LCSC; Supplier Part Number: C2933625; Resistance: 1R1; Tolerance: 1%; Power: 250mW
footprint RES SMD 1206
pins: 1, 2

## RES 1206 1R1 5%
designator C?, comment 1R1
1.1MR 5% 250mW 1206 Thick Film Resistor; Manufacturer: FOJAN; Manufacturer Part Number: FRC1206J115 TS; Voltage Rating: 200V; Supplier: LCSC; Supplier Part Number: C2933779; Resistance: 1R1; Tolerance: 5%; Power: 250mW
footprint RES SMD 1206
pins: 1, 2

## RES 1206 1R2 1%
designator C?, comment 1R2
1.2R 1% 250mW 1206 Thick Film Resistor; Manufacturer: FOJAN; Manufacturer Part Number: FRC1206F1R20TS; Voltage Rating: 200V; Supplier: LCSC; Supplier Part Number: C2907364; Resistance: 1R2; Tolerance: 1%; Power: 250mW
footprint RES SMD 1206
pins: 1, 2

## RES 1206 1R2 1%_1
designator C?, comment 1R2
1.2MR 1% 250mW 1206 Thick Film Resistor; Manufacturer: FOJAN; Manufacturer Part Number: FRC1206F1204TS; Voltage Rating: 200V; Supplier: LCSC; Supplier Part Number: C2933587; Resistance: 1R2; Tolerance: 1%; Power: 250mW
footprint RES SMD 1206
pins: 1, 2

## RES 1206 1R3 1%
designator C?, comment 1R3
1.33R 1% 250mW 1206 Thick Film Resistor; Manufacturer: FOJAN; Manufacturer Part Number: FRC1206F1R33TS; Voltage Rating: 200V; Supplier: LCSC; Supplier Part Number: C5126092; Resistance: 1R3; Tolerance: 1%; Power: 250mW
footprint RES SMD 1206
pins: 1, 2

## RES 1206 1R3 1%_1
designator C?, comment 1R3
1.3MR 1% 250mW 1206 Thick Film Resistor; Manufacturer: FOJAN; Manufacturer Part Number: FRC1206F1304TS; Voltage Rating: 200V; Supplier: LCSC; Supplier Part Number: C2933594; Resistance: 1R3; Tolerance: 1%; Power: 250mW
footprint RES SMD 1206
pins: 1, 2

## RES 1206 1R3 1%_2
designator C?, comment 1R3
1.37R 1% 250mW 1206 Thick Film Resistor; Manufacturer: FOJAN; Manufacturer Part Number: FRC1206F1R37TS; Voltage Rating: 200V; Supplier: LCSC; Supplier Part Number: C3000600; Resistance: 1R3; Tolerance: 1%; Power: 250mW
footprint RES SMD 1206
pins: 1, 2

## RES 1206 1R3 5%
designator C?, comment 1R3
1.3R 5% 250mW 1206 Thick Film Resistor; Manufacturer: FOJAN; Manufacturer Part Number: FRC1206J1R3 TS; Voltage Rating: 200V; Supplier: LCSC; Supplier Part Number: C2907412; Resistance: 1R3; Tolerance: 5%; Power: 250mW
footprint RES SMD 1206
pins: 1, 2

## RES 1206 1R4 1%
designator C?, comment 1R4
1.4MR 1% 250mW 1206 Thick Film Resistor; Manufacturer: FOJAN; Manufacturer Part Number: FRC1206F1404TS; Voltage Rating: 200V; Supplier: LCSC; Supplier Part Number: C3013242; Resistance: 1R4; Tolerance: 1%; Power: 250mW
footprint RES SMD 1206
pins: 1, 2

## RES 1206 1R4 1%_1
designator C?, comment 1R4
1.47R 1% 250mW 1206 Thick Film Resistor; Manufacturer: FOJAN; Manufacturer Part Number: FRC1206F1R47TS; Voltage Rating: 200V; Supplier: LCSC; Supplier Part Number: C2974047; Resistance: 1R4; Tolerance: 1%; Power: 250mW
footprint RES SMD 1206
pins: 1, 2

## RES 1206 1R4 1%_2
designator C?, comment 1R4
1.47MR 1% 250mW 1206 Thick Film Resistor; Manufacturer: FOJAN; Manufacturer Part Number: FRC1206F1474TS; Voltage Rating: 200V; Supplier: LCSC; Supplier Part Number: C5126193; Resistance: 1R4; Tolerance: 1%; Power: 250mW
footprint RES SMD 1206
pins: 1, 2

## RES 1206 1R4 1%_3
designator C?, comment 1R4
1.43R 1% 250mW 1206 Thick Film Resistor; Manufacturer: FOJAN; Manufacturer Part Number: FRC1206F1R43TS; Voltage Rating: 200V; Supplier: LCSC; Supplier Part Number: C2933629; Resistance: 1R4; Tolerance: 1%; Power: 250mW
footprint RES SMD 1206
pins: 1, 2

## RES 1206 1R5 1%
designator C?, comment 1R5
1.5R 1% 250mW 1206 Thick Film Resistor; Manufacturer: FOJAN; Manufacturer Part Number: FRC1206F1R50TS; Voltage Rating: 200V; Supplier: LCSC; Supplier Part Number: C2930391; Resistance: 1R5; Tolerance: 1%; Power: 250mW
footprint RES SMD 1206
pins: 1, 2

## RES 1206 1R5 1%_1
designator C?, comment 1R5
1.5MR 1% 250mW 1206 Thick Film Resistor; Manufacturer: FOJAN; Manufacturer Part Number: FRC1206F1504TS; Voltage Rating: 200V; Supplier: LCSC; Supplier Part Number: C2933600; Resistance: 1R5; Tolerance: 1%; Power: 250mW
footprint RES SMD 1206
pins: 1, 2

## RES 1206 1R5 1%_2
designator C?, comment 1R5
250mW 1.54MR 200V Thick Film Resistor 100ppm/â„ƒ 1% 1206 Chip Resistor - Surface Mount RoHS; Manufacturer: FOJAN; Manufacturer Part Number: FRC1206F1544TS; Supplier: LCSC; Supplier Part Number: C48533776; Resistance: 1R5; Tolerance: 1%; Voltage Rating: 200V; Power: 250mW
footprint RES SMD 1206
pins: 1, 2

## RES 1206 1R5 1%_3
designator C?, comment 1R5
1.58R 1% 250mW 1206 Thick Film Resistor; Manufacturer: FOJAN; Manufacturer Part Number: FRC1206F1R58TS; Voltage Rating: 200V; Supplier: LCSC; Supplier Part Number: C5126043; Resistance: 1R5; Tolerance: 1%; Power: 250mW
footprint RES SMD 1206
pins: 1, 2

## RES 1206 1R5 1%_4
designator C?, comment 1R5
1.54R 1% 250mW 1206 Thick Film Resistor; Manufacturer: FOJAN; Manufacturer Part Number: FRC1206F1R54TS; Voltage Rating: 200V; Supplier: LCSC; Supplier Part Number: C2933630; Resistance: 1R5; Tolerance: 1%; Power: 250mW
footprint RES SMD 1206
pins: 1, 2

## RES 1206 1R5 5%
designator C?, comment 1R5
1.5MR 5% 250mW 1206 Thick Film Resistor; Manufacturer: FOJAN; Manufacturer Part Number: FRC1206J155 TS; Voltage Rating: 200V; Supplier: LCSC; Supplier Part Number: C2907414; Resistance: 1R5; Tolerance: 5%; Power: 250mW
footprint RES SMD 1206
pins: 1, 2

## RES 1206 1R5 5%_1
designator C?, comment 1R5
1.5R 250mW 200V Thick Film Resistor 200ppm/â„ƒ 5% 1206 Chip Resistor - Surface Mount RoHS; Manufacturer: FOJAN; Manufacturer Part Number: FRQ1206J1R5 TS; Supplier: LCSC; Supplier Part Number: C7468672; Resistance: 1R5; Tolerance: 5%; Voltage Rating: 200V; Power: 250mW
footprint RES SMD 1206
pins: 1, 2

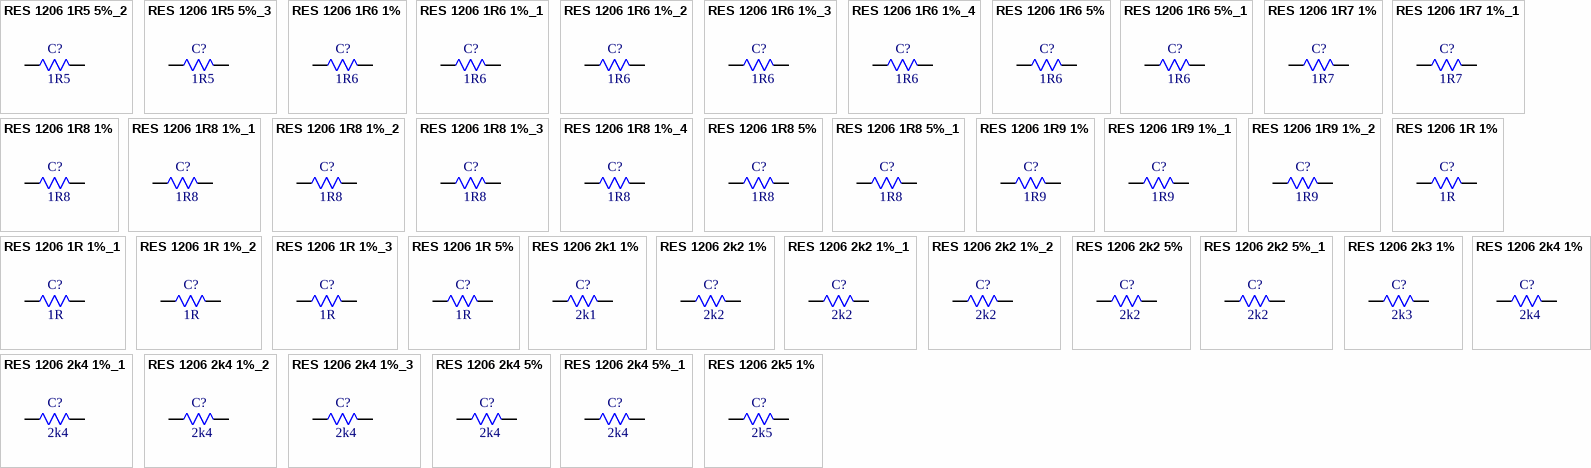
[diagram p59: symbols RES 1206 1R5 5%_2 to RES 1206 2k5 1%]

## RES 1206 1R5 5%_2
designator C?, comment 1R5
1.5R 5% 250mW 1206 Thick Film Resistor; Manufacturer: FOJAN; Manufacturer Part Number: FRC1206J1R5 TS; Voltage Rating: 200V; Supplier: LCSC; Supplier Part Number: C2907415; Resistance: 1R5; Tolerance: 5%; Power: 250mW
footprint RES SMD 1206
pins: 1, 2

## RES 1206 1R5 5%_3
designator C?, comment 1R5
1.5MR 5% 250mW 1206 Thick Film Resistor; Manufacturer: FOJAN; Manufacturer Part Number: FRV1206J155 TS; Voltage Rating: 500V; Supplier: LCSC; Supplier Part Number: C3013389; Resistance: 1R5; Tolerance: 5%; Power: 250mW
footprint RES SMD 1206
pins: 1, 2

## RES 1206 1R6 1%
designator C?, comment 1R6
1.62R 1% 250mW 1206 Thick Film Resistor; Manufacturer: FOJAN; Manufacturer Part Number: FRC1206F1R62TS; Voltage Rating: 200V; Supplier: LCSC; Supplier Part Number: C5126136; Resistance: 1R6; Tolerance: 1%; Power: 250mW
footprint RES SMD 1206
pins: 1, 2

## RES 1206 1R6 1%_1
designator C?, comment 1R6
1.69R 1% 250mW 1206 Thick Film Resistor; Manufacturer: FOJAN; Manufacturer Part Number: FRC1206F1R69TS; Voltage Rating: 200V; Supplier: LCSC; Supplier Part Number: C2933632; Resistance: 1R6; Tolerance: 1%; Power: 250mW
footprint RES SMD 1206
pins: 1, 2

## RES 1206 1R6 1%_2
designator C?, comment 1R6
1.65R 1% 250mW 1206 Thick Film Resistor; Manufacturer: FOJAN; Manufacturer Part Number: FRC1206F1R65TS; Voltage Rating: 200V; Supplier: LCSC; Supplier Part Number: C2933631; Resistance: 1R6; Tolerance: 1%; Power: 250mW
footprint RES SMD 1206
pins: 1, 2

## RES 1206 1R6 1%_3
designator C?, comment 1R6
1.6MR 1% 250mW 1206 Thick Film Resistor; Manufacturer: FOJAN; Manufacturer Part Number: FRC1206F1604TS; Voltage Rating: 200V; Supplier: LCSC; Supplier Part Number: C2930392; Resistance: 1R6; Tolerance: 1%; Power: 250mW
footprint RES SMD 1206
pins: 1, 2

## RES 1206 1R6 1%_4
designator C?, comment 1R6
250mW 1.69MR 200V Thick Film Resistor 100ppm/â„ƒ 1% 1206 Chip Resistor - Surface Mount RoHS; Manufacturer: FOJAN; Manufacturer Part Number: FRC1206F1694TS; Supplier: LCSC; Supplier Part Number: C48533770; Resistance: 1R6; Tolerance: 1%; Voltage Rating: 200V; Power: 250mW
footprint RES SMD 1206
pins: 1, 2

## RES 1206 1R6 5%
designator C?, comment 1R6
1.6R 5% 250mW 1206 Thick Film Resistor; Manufacturer: FOJAN; Manufacturer Part Number: FRC1206J1R6 TS; Voltage Rating: 200V; Supplier: LCSC; Supplier Part Number: C2907417; Resistance: 1R6; Tolerance: 5%; Power: 250mW
footprint RES SMD 1206
pins: 1, 2

## RES 1206 1R6 5%_1
designator C?, comment 1R6
1.6MR 5% 250mW 1206 Thick Film Resistor; Manufacturer: FOJAN; Manufacturer Part Number: FRC1206J165 TS; Voltage Rating: 200V; Supplier: LCSC; Supplier Part Number: C2933784; Resistance: 1R6; Tolerance: 5%; Power: 250mW
footprint RES SMD 1206
pins: 1, 2

## RES 1206 1R7 1%
designator C?, comment 1R7
1.74R 1% 250mW 1206 Thick Film Resistor; Manufacturer: FOJAN; Manufacturer Part Number: FRC1206F1R74TS; Voltage Rating: 200V; Supplier: LCSC; Supplier Part Number: C2930336; Resistance: 1R7; Tolerance: 1%; Power: 250mW
footprint RES SMD 1206
pins: 1, 2

## RES 1206 1R7 1%_1
designator C?, comment 1R7
1.78R 1% 250mW 1206 Thick Film Resistor; Manufacturer: FOJAN; Manufacturer Part Number: FRC1206F1R78TS; Voltage Rating: 200V; Supplier: LCSC; Supplier Part Number: C5153987; Resistance: 1R7; Tolerance: 1%; Power: 250mW
footprint RES SMD 1206
pins: 1, 2

## RES 1206 1R8 1%
designator C?, comment 1R8
1.8R 1% 250mW 1206 Thick Film Resistor; Manufacturer: FOJAN; Manufacturer Part Number: FRC1206F1R80TS; Voltage Rating: 200V; Supplier: LCSC; Supplier Part Number: C2907367; Resistance: 1R8; Tolerance: 1%; Power: 250mW
footprint RES SMD 1206
pins: 1, 2

## RES 1206 1R8 1%_1
designator C?, comment 1R8
1.8MR 1% 250mW 1206 Thick Film Resistor; Manufacturer: FOJAN; Manufacturer Part Number: FRC1206F1804TS; Voltage Rating: 200V; Supplier: LCSC; Supplier Part Number: C2933615; Resistance: 1R8; Tolerance: 1%; Power: 250mW
footprint RES SMD 1206
pins: 1, 2

## RES 1206 1R8 1%_2
designator C?, comment 1R8
1.82R 1% 250mW 1206 Thick Film Resistor; Manufacturer: FOJAN; Manufacturer Part Number: FRC1206F1R82TS; Voltage Rating: 200V; Supplier: LCSC; Supplier Part Number: C2933633; Resistance: 1R8; Tolerance: 1%; Power: 250mW
footprint RES SMD 1206
pins: 1, 2

## RES 1206 1R8 1%_3
designator C?, comment 1R8
1.87R 1% 250mW 1206 Thick Film Resistor; Manufacturer: FOJAN; Manufacturer Part Number: FRC1206F1R87TS; Voltage Rating: 200V; Supplier: LCSC; Supplier Part Number: C2933634; Resistance: 1R8; Tolerance: 1%; Power: 250mW
footprint RES SMD 1206
pins: 1, 2

## RES 1206 1R8 1%_4
designator C?, comment 1R8
250mW 1.82MR 200V Thick Film Resistor 1% 1206 Chip Resistor - Surface Mount RoHS; Manufacturer: FOJAN; Manufacturer Part Number: FRC1206F1824TS; Supplier: LCSC; Supplier Part Number: C51048259; Resistance: 1R8; Tolerance: 1%; Voltage Rating: 200V; Power: 250mW
footprint RES SMD 1206
pins: 1, 2

## RES 1206 1R8 5%
designator C?, comment 1R8
1.8R 5% 250mW 1206 Thick Film Resistor; Manufacturer: FOJAN; Manufacturer Part Number: FRC1206J1R8 TS; Voltage Rating: 200V; Supplier: LCSC; Supplier Part Number: C2907420; Resistance: 1R8; Tolerance: 5%; Power: 250mW
footprint RES SMD 1206
pins: 1, 2

## RES 1206 1R8 5%_1
designator C?, comment 1R8
1.8MR 5% 250mW 1206 Thick Film Resistor; Manufacturer: FOJAN; Manufacturer Part Number: FRC1206J185 TS; Voltage Rating: 200V; Supplier: LCSC; Supplier Part Number: C2907419; Resistance: 1R8; Tolerance: 5%; Power: 250mW
footprint RES SMD 1206
pins: 1, 2

## RES 1206 1R9 1%
designator C?, comment 1R9
1.91R 1% 250mW 1206 Thick Film Resistor; Manufacturer: FOJAN; Manufacturer Part Number: FRC1206F1R91TS; Voltage Rating: 200V; Supplier: LCSC; Supplier Part Number: C2930393; Resistance: 1R9; Tolerance: 1%; Power: 250mW
footprint RES SMD 1206
pins: 1, 2

## RES 1206 1R9 1%_1
designator C?, comment 1R9
1.96R 1% 250mW 1206 Thick Film Resistor; Manufacturer: FOJAN; Manufacturer Part Number: FRC1206F1R96TS; Voltage Rating: 200V; Supplier: LCSC; Supplier Part Number: C2933635; Resistance: 1R9; Tolerance: 1%; Power: 250mW
footprint RES SMD 1206
pins: 1, 2

## RES 1206 1R9 1%_2
designator C?, comment 1R9
1.96MR 250mW 200V Thick Film Resistor 100ppm/â„ƒ 1% 1206 Chip Resistor - Surface Mount RoHS; Manufacturer: FOJAN; Manufacturer Part Number: FRC1206F1964TS; Supplier: LCSC; Supplier Part Number: C48533700; Resistance: 1R9; Tolerance: 1%; Voltage Rating: 200V; Power: 250mW
footprint RES SMD 1206
pins: 1, 2

## RES 1206 1R 1%
designator C?, comment 1R
1R 1% 250mW 1206 Thick Film Resistor; Manufacturer: FOJAN; Manufacturer Part Number: FRC1206F1R00TS; Voltage Rating: 200V; Supplier: LCSC; Supplier Part Number: C2907374; Resistance: 1R; Tolerance: 1%; Power: 250mW
footprint RES SMD 1206
pins: 1, 2

## RES 1206 1R 1%_1
designator C?, comment 1R
1R 500mW Thick Film Resistor 200ppm/â„ƒ 1% 1206 Chip Resistor - Surface Mount RoHS; Manufacturer: FOJAN; Manufacturer Part Number: FRP1206F1R00TS; Supplier: LCSC; Supplier Part Number: C7468256; Resistance: 1R; Tolerance: 1%; Power: 500mW
footprint RES SMD 1206
pins: 1, 2

## RES 1206 1R 1%_2
designator C?, comment 1R
1R 600mW 200V Thick Film Resistor 1% 1206 Chip Resistor - Surface Mount RoHS; Manufacturer: FOJAN; Manufacturer Part Number: FPS1206F1R00TS; Supplier: LCSC; Supplier Part Number: C52033557; Resistance: 1R; Tolerance: 1%; Voltage Rating: 200V; Power: 600mW
footprint RES SMD 1206
pins: 1, 2

## RES 1206 1R 1%_3
designator C?, comment 1R
1R 1% 250mW 1206 Thick Film Resistor; Manufacturer: FOJAN; Manufacturer Part Number: FRQ1206F1R00TS; Voltage Rating: 200V; Supplier: LCSC; Supplier Part Number: C42372218; Resistance: 1R; Tolerance: 1%; Power: 250mW
footprint RES SMD 1206
pins: 1, 2

## RES 1206 1R 5%
designator C?, comment 1R
1R 250mW 200V Thick Film Resistor 5% 200ppm/â„ƒ 1206 Chip Resistor - Surface Mount RoHS; Manufacturer: FOJAN; Manufacturer Part Number: FRQ1206J1R0 TS; Supplier: LCSC; Supplier Part Number: C18222273; Resistance: 1R; Tolerance: 5%; Voltage Rating: 200V; Power: 250mW
footprint RES SMD 1206
pins: 1, 2

## RES 1206 2k1 1%
designator C?, comment 2k1
2.1kR 1% 250mW 1206 Thick Film Resistor; Manufacturer: FOJAN; Manufacturer Part Number: FRC1206F2101TS; Voltage Rating: 200V; Supplier: LCSC; Supplier Part Number: C5713323; Resistance: 2k1; Tolerance: 1%; Power: 250mW
footprint RES SMD 1206
pins: 1, 2

## RES 1206 2k2 1%
designator C?, comment 2k2
2.2kR 1% 250mW 1206 Thick Film Resistor; Manufacturer: FOJAN; Manufacturer Part Number: FRC1206F2201TS; Voltage Rating: 200V; Supplier: LCSC; Supplier Part Number: C2930413; Resistance: 2k2; Tolerance: 1%; Power: 250mW
footprint RES SMD 1206
pins: 1, 2

## RES 1206 2k2 1%_1
designator C?, comment 2k2
250mW 2.21kR 200V Thick Film Resistor 100ppm/â„ƒ 1% 1206 Chip Resistor - Surface Mount RoHS; Manufacturer: FOJAN; Manufacturer Part Number: FRC1206F2211TS; Supplier: LCSC; Supplier Part Number: C48533679; Resistance: 2k2; Tolerance: 1%; Voltage Rating: 200V; Power: 250mW
footprint RES SMD 1206
pins: 1, 2

## RES 1206 2k2 1%_2
designator C?, comment 2k2
2.26kR 250mW 200V Thick Film Resistor 1% 1206 Chip Resistor - Surface Mount RoHS; Manufacturer: FOJAN; Manufacturer Part Number: FRC1206F2261TS; Supplier: LCSC; Supplier Part Number: C51048274; Resistance: 2k2; Tolerance: 1%; Voltage Rating: 200V; Power: 250mW
footprint RES SMD 1206
pins: 1, 2

## RES 1206 2k2 5%
designator C?, comment 2k2
2.2kR 5% 250mW 1206 Thick Film Resistor; Manufacturer: FOJAN; Manufacturer Part Number: FRC1206J222 TS; Voltage Rating: 200V; Supplier: LCSC; Supplier Part Number: C2907443; Resistance: 2k2; Tolerance: 5%; Power: 250mW
footprint RES SMD 1206
pins: 1, 2

## RES 1206 2k2 5%_1
designator C?, comment 2k2
250mW 2.2kR 200V Thick Film Resistor 5% 100ppm/â„ƒ 1206 Chip Resistor - Surface Mount RoHS; Manufacturer: FOJAN; Manufacturer Part Number: FRQ1206J222 TS; Supplier: LCSC; Supplier Part Number: C7468469; Resistance: 2k2; Tolerance: 5%; Voltage Rating: 200V; Power: 250mW
footprint RES SMD 1206
pins: 1, 2

## RES 1206 2k3 1%
designator C?, comment 2k3
2.32kR 1% 250mW 1206 Thick Film Resistor; Manufacturer: FOJAN; Manufacturer Part Number: FRC1206F2321TS; Voltage Rating: 200V; Supplier: LCSC; Supplier Part Number: C5204021; Resistance: 2k3; Tolerance: 1%; Power: 250mW
footprint RES SMD 1206
pins: 1, 2

## RES 1206 2k4 1%
designator C?, comment 2k4
2.49kR 1% 250mW 1206 Thick Film Resistor; Manufacturer: FOJAN; Manufacturer Part Number: FRC1206F2491TS; Voltage Rating: 200V; Supplier: LCSC; Supplier Part Number: C2930414; Resistance: 2k4; Tolerance: 1%; Power: 250mW
footprint RES SMD 1206
pins: 1, 2

## RES 1206 2k4 1%_1
designator C?, comment 2k4
250mW 2.43kR 200V Thick Film Resistor 1% 100ppm/â„ƒ 1206 Chip Resistor - Surface Mount RoHS; Manufacturer: FOJAN; Manufacturer Part Number: FRC1206F2431TS; Supplier: LCSC; Supplier Part Number: C7467335; Resistance: 2k4; Tolerance: 1%; Voltage Rating: 200V; Power: 250mW
footprint RES SMD 1206
pins: 1, 2

## RES 1206 2k4 1%_2
designator C?, comment 2k4
2.4kR 1% 250mW 1206 Thick Film Resistor; Manufacturer: FOJAN; Manufacturer Part Number: FRC1206F2401TS; Voltage Rating: 200V; Supplier: LCSC; Supplier Part Number: C2933650; Resistance: 2k4; Tolerance: 1%; Power: 250mW
footprint RES SMD 1206
pins: 1, 2

## RES 1206 2k4 1%_3
designator C?, comment 2k4
2.4kR 250mW Thick Film Resistor 1% 100ppm/â„ƒ 1206 Chip Resistor - Surface Mount RoHS; Manufacturer: FOJAN; Manufacturer Part Number: FRQ1206F2401TS; Supplier: LCSC; Supplier Part Number: C7468611; Resistance: 2k4; Tolerance: 1%; Power: 250mW
footprint RES SMD 1206
pins: 1, 2

## RES 1206 2k4 5%
designator C?, comment 2k4
2.4kR 5% 250mW 1206 Thick Film Resistor; Manufacturer: FOJAN; Manufacturer Part Number: FRC1206J242 TS; Voltage Rating: 200V; Supplier: LCSC; Supplier Part Number: C2907446; Resistance: 2k4; Tolerance: 5%; Power: 250mW
footprint RES SMD 1206
pins: 1, 2

## RES 1206 2k4 5%_1
designator C?, comment 2k4
2.4kR 5% 250mW 1206 Thick Film Resistor AEC-Q200; Manufacturer: FOJAN; Manufacturer Part Number: FRQ1206J242 TS; Voltage Rating: 200V; Supplier: LCSC; Supplier Part Number: C5713467; Resistance: 2k4; Tolerance: 5%; Power: 250mW
footprint RES SMD 1206
pins: 1, 2